# EAGLE library part TCM320 (library TCM320)
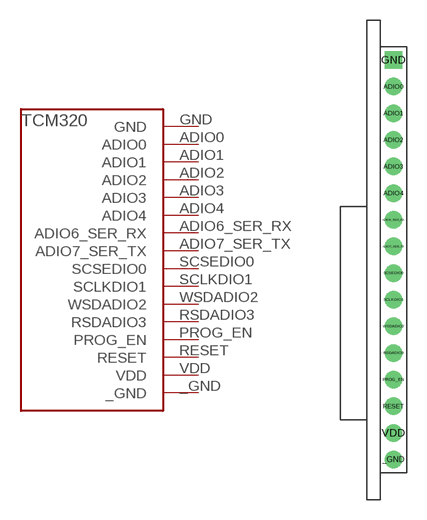
[diagram p0: symbol with the pads of TCM320; footprint TCM320]

Designator prefix U

## TCM320  [TCM320]
_GND  _GND
ADIO0  ADIO0
ADIO1  ADIO1
ADIO2  ADIO2
ADIO3  ADIO3
ADIO4  ADIO4
ADIO6_SER_RX  ADIO6_SER_RX
ADIO7_SER_TX  ADIO7_SER_TX
GND  GND
PROG_EN  PROG_EN
RESET  RESET
RSDADIO3  RSDADIO3
SCLKDIO1  SCLKDIO1
SCSEDIO0  SCSEDIO0
VDD  VDD
WSDADIO2  WSDADIO2

## Footprint TCM320 (pad centres in mm)
drill 0.8: _GND 0,-16; ADIO0 0,12; ADIO1 0,10; ADIO2 0,8; ADIO3 0,6; ADIO4 0,4; ADIO6_SER_RX 0,2; ADIO7_SER_TX 0,0; PROG_EN 0,-10; RESET 0,-12; RSDADIO3 0,-8; SCLKDIO1 0,-4; SCSEDIO0 0,-2; VDD 0,-14; WSDADIO2 0,-6
drill 0.8 square: GND 0,14